# Altium footprint library StartPart.PcbLib: 1 footprints
Each footprint in its own frame and in the unit in brackets; x right, y up, seen from the top. Pads: shape width x height; smd on the part's side, far side on the other; paste and mask are expansions set on the pad; w line width, h text height; cw(c..) or ccw(c..) is an arc to the next point about the centre after c.
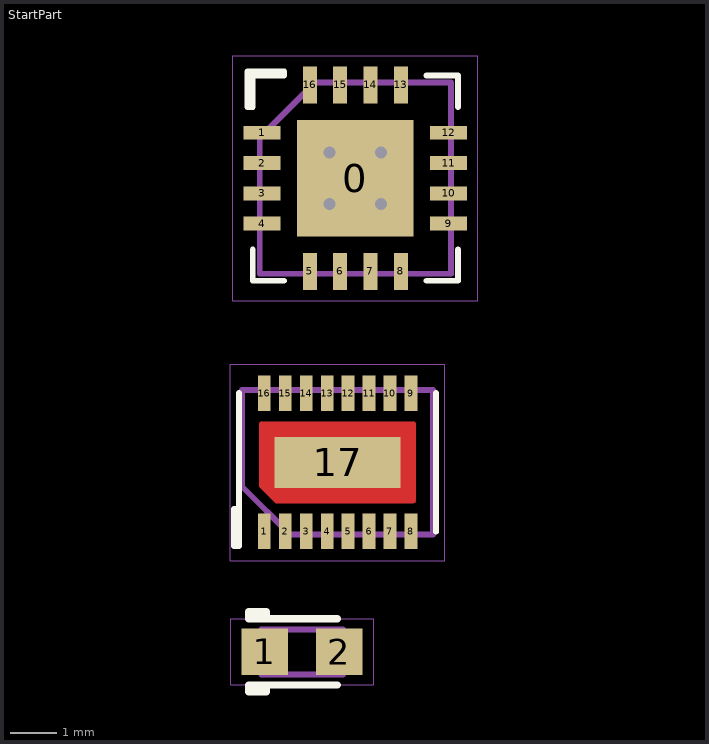
[diagram p0: the footprint, top view; thin cyan lines are the x and y axes]

## StartPart [mm]
pads (36):
  rect 2.5x2.5 smd: 0(51.435,-6.985)
  rect 0.8x0.3 smd: 1(49.435,-6.01) 2(49.435,-6.66) 3(49.435,-7.31) 4(49.435,-7.96) 9(53.435,-7.96) 10(53.435,-7.31) 11(53.435,-6.66) 12(53.435,-6.01)
  rect 0.27x0.76 smd: 1(49.479,-14.561) 2(49.929,-14.561) 3(50.379,-14.561) 4(50.829,-14.561) 5(51.279,-14.561) 6(51.729,-14.561) 7(52.179,-14.561) 8(52.629,-14.561) 9(52.629,-11.601) 10(52.179,-11.601) 11(51.729,-11.601) 12(51.279,-11.601) 13(50.829,-11.601) 14(50.379,-11.601) 15(49.929,-11.601) 16(49.479,-11.601)
  rect 1x1 smd: 1(49.492,-17.145) 2(51.092,-17.145)
  rect 0.3x0.8 smd: 5(50.46,-8.985) 6(51.11,-8.985) 7(51.76,-8.985) 8(52.41,-8.985) 13(52.41,-4.985) 14(51.76,-4.985) 15(51.11,-4.985) 16(50.46,-4.985)
  rect 2.7x1.1 smd: 17(51.054,-13.081)
via 50.885,-6.435 diameter 0.508 hole 0.254
via 51.985,-6.435 diameter 0.508 hole 0.254
via 50.885,-7.535 diameter 0.508 hole 0.254
via 51.985,-7.535 diameter 0.508 hole 0.254
Top Layer:
  region: 52.729,-13.081 52.733,-13.906 52.717,-13.944 52.679,-13.96 52.679,-13.956 49.729,-13.956 49.379,-13.606 49.375,-12.256 49.391,-12.218 49.429,-12.202 49.429,-12.206 52.679,-12.202 52.717,-12.218 52.733,-12.256 52.729,-12.256
Top Overlay:
  lines w0.127: 48.94,-14.081 48.829,-14.081 48.829,-14.877 48.94,-14.877 48.94,-11.595 ; 49.235,-8.51 49.235,-9.185 49.91,-9.185 ; 49.235,-5.461 49.124,-5.461 49.124,-4.699 49.911,-4.699 49.91,-4.699 49.91,-4.785 49.235,-4.785 49.235,-5.46 ; 52.96,-9.185 53.635,-9.185 53.635,-8.51 ; 52.96,-4.785 53.635,-4.785 53.635,-5.46 ; 53.168,-14.567 53.168,-11.595
  lines w0.152: 51.054,-17.856 49.53,-17.856 ; 51.054,-16.434 49.53,-16.434 ; 49.53,-17.856 49.53,-18.009 49.149,-18.009 49.149,-17.856 49.53,-17.856 ; 49.53,-16.434 49.53,-16.281 49.149,-16.281 49.149,-16.434 49.53,-16.434
Top Solder:
  rectangle: 49.242,-12.083 52.865,-11.119
  rectangle: 49.242,-15.043 52.865,-14.079
Assembly Dwg - Top:
  text ".Designator" at 0,2.54 h0.76
  text ".Designator" at 50.165,-13.462 h0.76
  text ".Designator" at 49.403,-17.526 h0.76
Comp Assy Info - Top:
  lines w0.127: 49.632,-17.628 49.632,-16.662 ; 49.004,-13.598 50.037,-14.631 53.104,-14.631 53.104,-11.531 49.004,-11.531 49.004,-13.598 ; 49.385,-9.035 53.485,-9.035 53.485,-4.935 50.564,-4.935 49.385,-6.114 49.385,-9.035 ; 49.417,-17.628 51.167,-17.628 51.167,-16.662 49.417,-16.662 49.417,-17.628
Courtyards/Models - Top:
  lines w0.025: 48.754,-15.191 48.754,-10.971 53.354,-10.971 53.354,-15.191 48.754,-15.191 ; 48.768,-17.845 51.816,-17.845 51.816,-16.434 48.768,-16.434 48.768,-17.845 ; 48.81,-9.61 48.81,-4.36 54.06,-4.36 54.06,-9.61 48.81,-9.61
Design Notes:
  text "Style examples" at 48.26,-1.905 h0.76
  text "7) Delete this text and examples prior to saving the footprint." at 0,-30.48 h0.76
  text "2) Draw primitives on appropriate layer" at 0,-6.35 h0.76
  text "location if known)." at 1.905,-4.445 h0.76
  text "center of part for SMT parts (or pick up" at 1.905,-3.175 h0.76
  text "1) Origin at Pin 1 for through hole parts," at 0,-1.905 h0.76
  text "(review assignments by hitting the 'L' key)." at 1.905,-7.62 h0.76
  text "3) Line widths (Max, preferred):" at 0,-9.525 h0.76
  text "Silkscreen : 8mil (.203mm), 5mil (.127mm)" at 1.905,-11.43 h0.76
  text "Body Assembly outline : 8mil (.203mm), 5mil (.127mm))" at 1.905,-12.7 h0.76
  text "Courtyard : 1 mil (.025mm)" at 1.905,-13.97 h0.76
  text "4) To remove paste mask from a pin, select" at 0,-15.875 h0.76
  text "'Specifiy Expansion Value' in the Paste Mask" at 1.905,-17.145 h0.76
  text "Expansion section of the pin properties dialog" at 1.905,-18.415 h0.76
  text "and set it to a negative value equal to to 1/2" at 1.905,-19.685 h0.76
  text "the pad width." at 1.905,-20.955 h0.76
  text "5) Place the '.Designator' text under the component" at 0,-22.86 h0.76
  text "and aligned with the long axis of the part." at 1.905,-24.13 h0.76
  text "6) If you will be creating a family of components" at 0,-26.035 h0.76
  text "(e.g., connectors), they may be grouped in the" at 1.905,-27.305 h0.76
  text "same library." at 2.54,-28.575 h0.76
3D body: height 0.8, standoff 0.02, extent 49.385,-9.035 53.485,-4.935
3D body: height 0.8, standoff 0.05, extent 49.004,-14.631 53.104,-11.531
3D body: height 0.85, standoff 0, extent 49.417,-17.62 51.167,-16.67